# EAGLE library part IS65WV20488EBLL-* (library memory-issi-asynsram)
2048k x 8 low voltage, ultra low power CMOS static RAM 55ns access time 3.6V power supply
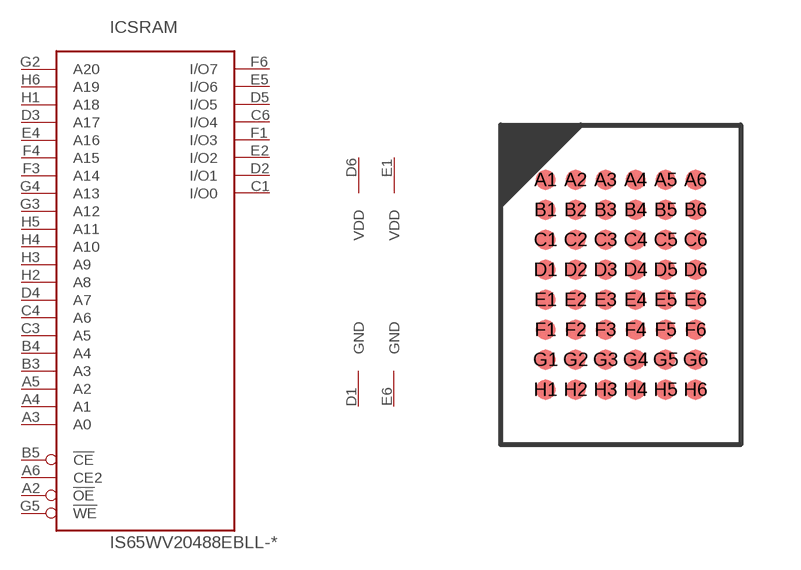
[diagram p61: symbol with the pads of TFBGA48_6X8; footprint TFBGA48_6X8]

Designator prefix IC; gates SRAM=2048KX8_TYP2 PWR=PWR_VDD2_GND2

## IS65WV20488EBLL-55B  [TFBGA48_6X8]
A2  SRAM:!OE  in
A3  SRAM:A0  in
A4  SRAM:A1  in
A5  SRAM:A2  in
A6  SRAM:CE2  in
B3  SRAM:A3  in
B4  SRAM:A4  in
B5  SRAM:!CE  in
C1  SRAM:I/O0  hiz
C3  SRAM:A5  in
C4  SRAM:A6  in
C6  SRAM:I/O4  hiz
D1  PWR:GND  pwr
D2  SRAM:I/O1  hiz
D3  SRAM:A17  in
D4  SRAM:A7  in
D5  SRAM:I/O5  hiz
D6  PWR:VDD  pwr
E1  PWR:VDD  pwr
E2  SRAM:I/O2  hiz
E4  SRAM:A16  in
E5  SRAM:I/O6  hiz
E6  PWR:GND  pwr
F1  SRAM:I/O3  hiz
F3  SRAM:A14  in
F4  SRAM:A15  in
F6  SRAM:I/O7  hiz
G2  SRAM:A20  in
G3  SRAM:A12  in
G4  SRAM:A13  in
G5  SRAM:!WE  in
H1  SRAM:A18  in
H2  SRAM:A8  in
H3  SRAM:A9  in
H4  SRAM:A10  in
H5  SRAM:A11  in
H6  SRAM:A19  in

## Footprint TFBGA48_6X8 (pad centres in mm)
TFBGA48 6 x 8 mm, 6 x 8-pin thin 0.75 mm pitch ball grid array package
smd 0.5 x 0.5: A1 -1.875,2.625; A2 -1.125,2.625; A3 -0.375,2.625; A4 0.375,2.625; A5 1.125,2.625; A6 1.875,2.625; B1 -1.875,1.875; B2 -1.125,1.875; B3 -0.375,1.875; B4 0.375,1.875; B5 1.125,1.875; B6 1.875,1.875; C1 -1.875,1.125; C2 -1.125,1.125; C3 -0.375,1.125; C4 0.375,1.125; C5 1.125,1.125; C6 1.875,1.125; D1 -1.875,0.375; D2 -1.125,0.375; D3 -0.375,0.375; D4 0.375,0.375; D5 1.125,0.375; D6 1.875,0.375; E1 -1.875,-0.375; E2 -1.125,-0.375; E3 -0.375,-0.375; E4 0.375,-0.375; E5 1.125,-0.375; E6 1.875,-0.375; F1 -1.875,-1.125; F2 -1.125,-1.125; F3 -0.375,-1.125; F4 0.375,-1.125; F5 1.125,-1.125; F6 1.875,-1.125; G1 -1.875,-1.875; G2 -1.125,-1.875; G3 -0.375,-1.875; G4 0.375,-1.875; G5 1.125,-1.875; G6 1.875,-1.875; H1 -1.875,-2.625; H2 -1.125,-2.625; H3 -0.375,-2.625; H4 0.375,-2.625; H5 1.125,-2.625; H6 1.875,-2.625